# EAGLE library part 2174507-2 (library 2174507-2)
Body Features: Shell Plating Material Reflowed Tin over Nickel | Offset 0 MM | Connector Profile Micro | Shell Plating Finish Bright | Configuration Features: Number of Ports 1 | Number of Positions 5 | Contact Features: Contact Mating Area Plating Material Thickness 29.52 MICIN | Contact Mating Area Plating Material Thickness .76 MICM | Contact Current Rating (Max) 1.8 AMP | Contact Mating Area Plating Material Gold | Dimensions: PCB Thickness (Recommended) .8 1. MM | PCB Thickness (Recommended) .031 Source: Datasheet <https://www.te.com/commerce/DocumentDelivery/DDEController?Action=srchrtrv&DocNm=5-1773464-3&DocType=Data Sheet&DocLang=English&PartCntxt=2174507-2&DocFormat=pdf>
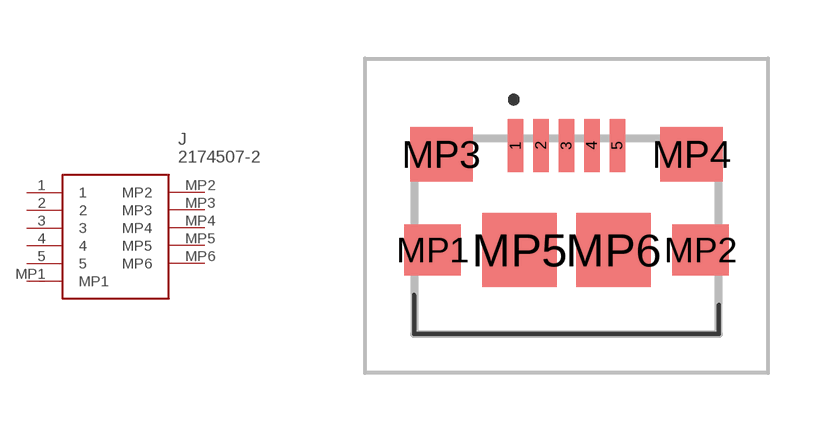
[diagram p0: symbol with the pads of 21745072; footprint 21745072]

Designator prefix J

## 2174507-2 (Description: Body Features: Shell Plating Material Reflowed Tin over Nickel | Offset 0 MM | Connector Profile Micro | Shell Plating Finish Bright | Configuration Features: Number of Ports 1 | Number of Positions 5 | Contact Features: Contact Mating Area Plating Material Thickness 29.52 MICIN | Contact Mating Area Plating Material Thickness .76 MICM | Contact Current Rating (Max) 1.8 AMP | Contact Mating Area Plating Material Gold | Dimensions: PCB Thickness (Recommended) .8 1. MM | PCB Thickness (Recommended) .031; Height: 2.86mm; Manufacturer_Name: TE Connectivity; Manufacturer_Part_Number: 2174507-2; Mouser_Part_Number: 571-2174507-2; Mouser_Price-Stock: https://www.mouser.co.uk/ProductDetail/TE-Connectivity/2174507-2?qs=kAqyOuzYGe%252BUWCFD1qNBLQ%3D%3D)  [21745072]
1  1
2  2
3  3
4  4
5  5
MP1  MP1
MP2  MP2
MP3  MP3
MP4  MP4
MP5  MP5
MP6  MP6

## Footprint 21745072 (pad centres in mm)
2174507-2-1
smd 0.4 x 1.35: 1 -1.3,2.325; 2 -0.65,2.325; 3 0,2.325; 4 0.65,2.325; 5 1.3,2.325
smd 1.45 x 1.3: MP1 -3.425,-0.35; MP2 3.425,-0.35
smd 1.6 x 1.4: MP3 -3.2,2.1; MP4 3.2,2.1
smd 1.9 x 1.9: MP5 -1.2,-0.35; MP6 1.2,-0.35